# Altium schematic symbol library Antenna_Order.SchLib: 32 symbols
Pins are listed as number, name and electrical type; pins without a type are passive.

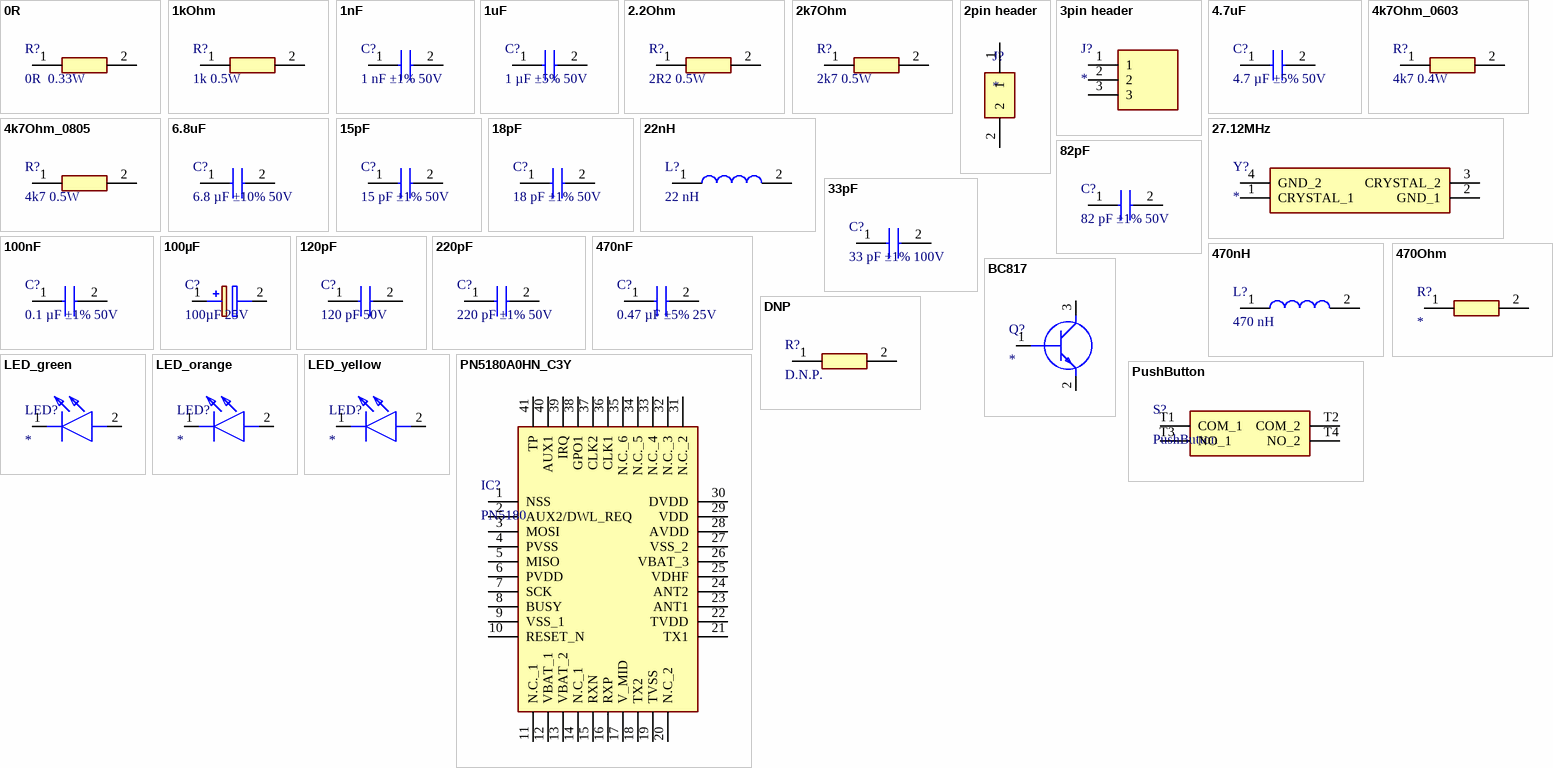
[diagram p0: symbols 0R to PushButton]

## 0R
designator R?, comment 0R  0.33W
Thick Film Resistors - SMD D11/CRCW0603 0R0 ET2 e3; Manufacturer_Name: Vishay; Manufacturer_Part_Number: CRCW06030000Z0EI; Datasheet Link: http://www.vishay.com/docs/20035/dcrcwe3.pdf; Height: 0.5mm; Mouser Part Number: 71-CRCW06030000Z0EI; Mouser Price/Stock: https://www.mouser.co.uk/ProductDetail/Vishay-Dale/CRCW06030000Z0EI?qs=%252B6g0mu59x7L7KQG%252Bwwt0jQ%3D%3D; Arrow Part Number: CRCW06030000Z0EI; Arrow Price/Stock: https://www.arrow.com/en/products/crcw06030000z0ei/vishay?utm_currency=USD&region=nac
footprint RESC1608X50N_1
pins: 1, 2

## 1kOhm
designator R?, comment 1k 0.5W
1 kOhms ±0.1% 0.5W, 1/2W Chip Resistor 0603 (1608 Metric) Thin Film; Manufacturer_Name: TE Connectivity; Manufacturer_Part_Number: RA73F1J1K0BTDF; Datasheet Link: https://www.te.com/commerce/DocumentDelivery/DDEController?Action=srchrtrv&DocNm=1773270-3&DocType=Data%20Sheet&DocLang=English&PartCntxt=2-2176474-6&DocFormat=pdf; Height: 0.58mm; Mouser Part Number: 279-RA73F1J1K0BTDF; Mouser Price/Stock: https://www.mouser.co.uk/ProductDetail/TE-Connectivity-Holsworthy/RA73F1J1K0BTDF?qs=Li%252BoUPsLEnve%2FJ8%252BWostNg%3D%3D
footprint RESC1608X58N
pins: 1, 2

## 1nF
designator C?, comment 1 nF ±1% 50V
1 nF ±1% 50V Ceramic Capacitor C0G, NP0 0805 (2012 Metric); Manufacturer_Name: Vishay; Manufacturer_Part_Number: VJ0805A102FXACW1BC; Datasheet Link: https://www.arrow.com/en/products/vj0805a102fxacw1bc/vishay; Height: 0.9mm; Mouser Part Number: 77-VJ0805A102FXACBC; Mouser Price/Stock: https://www.mouser.com/Search/Refine.aspx?Keyword=77-VJ0805A102FXACBC; Arrow Part Number: VJ0805A102FXACW1BC; Arrow Price/Stock: https://www.arrow.com/en/products/vj0805a102fxacw1bc/vishay
footprint CAPC2012X90N
pins: 1, 2

## 1uF
designator C?, comment 1 µF ±5% 50V
1 µF ±5% 50V Ceramic Capacitor X7R 0805 (2012 Metric); Manufacturer_Name: Kyocera AVX; Manufacturer_Part_Number: 08055C105JAT2A; Datasheet Link: https://componentsearchengine.com/Datasheets/1/08055C105JAT2A.pdf; Height: 1.4mm; Mouser Part Number: 581-08055C105JAT2A; Mouser Price/Stock: https://www.mouser.co.uk/ProductDetail/KYOCERA-AVX/08055C105JAT2A?qs=tIBUQlZETBw4JiKO8J7C1w%3D%3D; Arrow Part Number: 08055C105JAT2A; Arrow Price/Stock: https://www.arrow.com/en/products/08055c105jat2a/avx
footprint RESC2012X140N
pins: 1, 2

## 2.2Ohm
designator R?, comment 2R2 0.5W
2.2 Ohms ±1% 0.5W, 1/2W Chip Resistor 0805 (2012 Metric) Automotive AEC-Q200, Pulse Withstanding Thick Film; Manufacturer_Name: Vishay; Manufacturer_Part_Number: CRCW08052R20FKEAHP; Datasheet Link: https://componentsearchengine.com/Datasheets/1/CRCW08051R00FKEAHP.pdf; Height: 0.6mm; Mouser Part Number: 71-CRCW08052R20FKEAH; Mouser Price/Stock: https://www.mouser.co.uk/ProductDetail/Vishay-Dale/CRCW08052R20FKEAHP?qs=40TFAHZMFvc8altFjF5kRw%3D%3D; Arrow Part Number: CRCW08052R20FKEAHP; Arrow Price/Stock: https://www.arrow.com/en/products/crcw08052r20fkeahp/vishay?utm_currency=USD&region=nac
footprint RESC2012X60N_2
pins: 1, 2

## 2k7Ohm
designator R?, comment 2k7 0.5W
2.7 kOhms ±1% 0.5W, 1/2W Chip Resistor 0805 (2012 Metric) Automotive AEC-Q200, Pulse Withstanding Thick Film; Manufacturer_Name: Vishay; Manufacturer_Part_Number: CRCW08052K70FKEAHP; Datasheet Link: https://componentsearchengine.com/Datasheets/1/CRCW08051R00FKEAHP.pdf; Height: 0.6mm; Mouser Part Number: 71-CRCW08052K70FKEAH; Mouser Price/Stock: https://www.mouser.co.uk/ProductDetail/Vishay-Dale/CRCW08052K70FKEAHP?qs=40TFAHZMFvcOgTEige8g9Q%3D%3D; Arrow Part Number: CRCW08052K70FKEAHP; Arrow Price/Stock: https://www.arrow.com/en/products/crcw08052k70fkeahp/vishay?region=nac
footprint RESC2012X60N
pins: 1, 2

## 2pin header
designator J?
Connector Header Through Hole 2 position 0.100" (2.54mm); Manufacturer_Name: Wurth Elektronik; Manufacturer_Part_Number: 61300211121; Datasheet Link: https://componentsearchengine.com/Datasheets/2/61300211121.pdf; Height: 8.54mm; Mouser Part Number: 710-61300211121; Mouser Price/Stock: https://www.mouser.co.uk/ProductDetail/Wurth-Elektronik/61300211121?qs=t4813l51qx%252B1A5GYDQxPlw%3D%3D
footprint HDRV2W110P0X254_1X2_508X254X854P
pins: 1, 2

## 3pin header
designator J?
Connector Header Through Hole 3 position 0.100" (2.54mm); Manufacturer_Name: Harwin; Manufacturer_Part_Number: M20-9990345; Datasheet Link: https://cdn.harwin.com/pdfs/M20-999.pdf; Height: 8.64mm; Mouser Part Number: 855-M20-9990345; Mouser Price/Stock: https://www.mouser.co.uk/ProductDetail/Harwin/M20-9990345?qs=ulE8k0yEMYbl6ZPCtNdmpA%3D%3D
footprint HDRV3W64P0X254_1X3_762X254X864P
pins: 1, 2, 3

## 4.7uF
designator C?, comment 4.7 µF ±5% 50V
4.7 µF ±5% 50V Ceramic Capacitor X7R 1812 (4532 Metric); Manufacturer_Name: Kyocera AVX; Manufacturer_Part_Number: 18125C475JAT2A; Datasheet Link: https://datasheets.kyocera-avx.com/X7RDielectric.pdf; Height: 2.79mm; Mouser Part Number: 581-18125C475JAT2A; Mouser Price/Stock: https://www.mouser.com/Search/Refine.aspx?Keyword=581-18125C475JAT2A; Arrow Part Number: 18125C475JAT2A; Arrow Price/Stock: https://www.arrow.com/en/products/18125c475jat2a/avx
footprint CAPC4532X279N
pins: 1, 2

## 4k7Ohm_0603
designator R?, comment 4k7 0.4W
4.7 kOhms ±1% 0.4W Chip Resistor 0603 (1608 Metric) Automotive AEC-Q200, Pulse Withstanding Thick Film; Manufacturer_Name: ROHM Semiconductor; Manufacturer_Part_Number: SDR03EZPF4701; Height: 0.55mm; Mouser Part Number: 755-SDR03EZPF4701; Mouser Price/Stock: https://www.mouser.co.uk/ProductDetail/ROHM-Semiconductor/SDR03EZPF4701?qs=byeeYqUIh0OpNXtQCyPv7A%3D%3D
footprint RESC1608X55N_1
pins: 1, 2

## 4k7Ohm_0805
designator R?, comment 4k7 0.5W
4.7 kOhms ±1% 0.5W, 1/2W Chip Resistor 0805 (2012 Metric) Automotive AEC-Q200, Pulse Withstanding Thick Film; Manufacturer_Name: Vishay; Manufacturer_Part_Number: CRCW08054K70FKEAHP; Datasheet Link: https://componentsearchengine.com/Datasheets/1/CRCW08051R00FKEAHP.pdf; Height: 0.6mm; Mouser Part Number: 71-CRCW08054K70FKEAH; Mouser Price/Stock: https://www.mouser.co.uk/ProductDetail/Vishay-Dale/CRCW08054K70FKEAHP?qs=k2%2FDWSARqgEa%252B2IrxOkJMA%3D%3D; Arrow Part Number: CRCW08054K70FKEAHP; Arrow Price/Stock: https://www.arrow.com/en/products/crcw08054k70fkeahp/vishay?utm_currency=USD&region=nac
footprint RESC2012X60N_1
pins: 1, 2

## 6.8uF
designator C?, comment 6.8 µF ±10% 50V
6.8 µF ±10% 50V Ceramic Capacitor X5R 1206 (3216 Metric); Manufacturer_Name: TDK; Manufacturer_Part_Number: C3216X5R1H685K160AB; Datasheet Link: https://product.tdk.com/info/en/catalog/datasheets/mlcc_commercial_midvoltage_en.pdf; Height: 1.8mm; Mouser Part Number: 810-C3216X5R1H685K; Mouser Price/Stock: https://www.mouser.co.uk/ProductDetail/TDK/C3216X5R1H685K160AB?qs=LcTL%2F5vFEzHV52DL6DPbFg%3D%3D; Arrow Part Number: C3216X5R1H685K160AB; Arrow Price/Stock: https://www.arrow.com/en/products/c3216x5r1h685k160ab/tdk
footprint CAPC3216X180N
pins: 1, 2

## 15pF
designator C?, comment 15 pF ±1% 50V
15 pF ±1% 50V Ceramic Capacitor C0G, NP0 0805 (2012 Metric); Manufacturer_Name: KEMET; Manufacturer_Part_Number: C0805C150F5GACTU; Datasheet Link: https://content.kemet.com/datasheets/KEM_C1003_C0G_SMD.pdf; Height: 1.1mm; Mouser Part Number: 80-C0805C150F5GACTU; Mouser Price/Stock: https://www.mouser.com/Search/Refine.aspx?Keyword=80-C0805C150F5GACTU
footprint C0805
pins: 1, 2

## 18pF
designator C?, comment 18 pF ±1% 50V
18 pF ±1% 50V Ceramic Capacitor C0G, NP0 0805 (2012 Metric); Manufacturer_Name: Kyocera AVX; Manufacturer_Part_Number: 08055A180FAT2A; Datasheet Link: https://4donline.ihs.com/images/VipMasterIC/IC/AVXC/AVXC-S-A0014478390/AVXC-S-A0014712186-1.pdf?hkey=EF798316E3902B6ED9A73243A3159BB0; Height: 0.94mm; Mouser Part Number: 581-08055A180FAT2A; Mouser Price/Stock: https://www.mouser.com/Search/Refine.aspx?Keyword=581-08055A180FAT2A
footprint CAPC2012X94N_2
pins: 1, 2

## 22nH
designator L?, comment 22 nH
22 nH Unshielded Multilayer Inductor 300 mA 500mOhm Max 0805 (2012 Metric); Manufacturer_Name: ABRACON; Manufacturer_Part_Number: AIMC-0805-22NJ-T; Datasheet Link: https://abracon.com/Magnetics/new/AIMC-0805.pdf; Height: 1.15mm; Mouser Part Number: 815-AIMC-0805-22NJT; Mouser Price/Stock: https://www.mouser.com/Search/Refine.aspx?Keyword=815-AIMC-0805-22NJT; Arrow Part Number: AIMC-0805-22NJ-T; Arrow Price/Stock: https://www.arrow.com/en/products/aimc-0805-22nj-t/abracon
footprint INDC2012X115N
pins: 1, 2

## 27.12MHz
designator Y?
27.12 MHz ±10ppm Crystal 10pF 50 Ohms 4-SMD, No Lead; Manufacturer_Name: TXC CORPORATION; Manufacturer_Part_Number: 7M-27.120MEEQ-T; Datasheet Link: http://www.txccrystal.com/images/pdf/7m-accuracy.pdf; Height: 0.8mm; Mouser Part Number: 717-7M-27.120MEEQ-T; Mouser Price/Stock: https://www.mouser.co.uk/ProductDetail/TXC-Corporation/7M-27.120MEEQ-T?qs=65dIHZNch5vpCedHjSv71Q%3D%3D; Arrow Part Number: 7M-27.120MEEQ-T; Arrow Price/Stock: https://www.arrow.com/en/products/7m-27.120meeq-t/txc-corporation?region=europe
footprint 7M27120MEEQT
pins: 1 CRYSTAL_1, 2 GND_1, 3 CRYSTAL_2, 4 GND_2

## 33pF
designator C?, comment 33 pF ±1% 100V
33 pF ±1% 100V Ceramic Capacitor C0G, NP0 0805 (2012 Metric); Manufacturer_Name: Kyocera AVX; Manufacturer_Part_Number: 08051A330FAT2A; Datasheet Link: https://spicat.kyocera-avx.com/product/mlcc/chartview/08051A330FAT2A/DataSheet/NP0c; Height: 0.94mm; Mouser Part Number: 581-08051A330F; Mouser Price/Stock: https://www.mouser.co.uk/ProductDetail/AVX/08051A330FAT2A?qs=xS%252BL8w1%252B7NBUjm7pwPIlOg%3D%3D; Arrow Part Number: 08051A330FAT2A; Arrow Price/Stock: https://www.arrow.com/en/products/08051a330fat2a/avx
footprint CAPC2012X94N_4
pins: 1, 2

## 82pF
designator C?, comment 82 pF ±1% 50V
82 pF ±1% 50V Ceramic Capacitor C0G, NP0 0805 (2012 Metric); Manufacturer_Name: Kyocera AVX; Manufacturer_Part_Number: 08055A820FAT2A; Datasheet Link: https://www.mouser.com/datasheet/2/40/C0GNP0_Dielectric-951274.pdf; Height: 0.94mm; Mouser Part Number: 581-08055A820FAT2A; Mouser Price/Stock: https://www.mouser.co.uk/ProductDetail/Kyocera-AVX/08055A820FAT2A?qs=PcWMbIuZCscXY%2FuloG0yJQ%3D%3D
footprint CAPC2012X94N_1
pins: 1, 2

## 100nF
designator C?, comment 0.1 µF ±1% 50V
0.1 µF ±1% 50V Ceramic Capacitor C0G, NP0 1206 (3216 Metric); Manufacturer_Name: Murata Electronics; Manufacturer_Part_Number: GRT31C5C1H104FA02L; Datasheet Link: https://search.murata.co.jp/Ceramy/image/img/A01X/G101/ENG/GRT31C5C1H104FA02-01A.pdf; Height: 1.25mm; Mouser Part Number: 81-GRT31C5C1H104FA2L; Mouser Price/Stock: https://www.mouser.co.uk/ProductDetail/Murata-Electronics/GRT31C5C1H104FA02L?qs=xZ%2FP%252Ba9zWqakAIIZeEzSxA%3D%3D; Arrow Part Number: GRT31C5C1H104FA02L; Arrow Price/Stock: https://www.arrow.com/en/products/grt31c5c1h104fa02l/murata-manufacturing?region=nac
footprint GRT31x
pins: 1, 2

## 100µF
designator C?, comment 100µF 25V
Capacitor Polarised. Aluminum Organic Polymer Capacitors 100uF 25volt AEC-Q200; Manufacturer_Name: Panasonic; Manufacturer_Part_Number: EEH-ZA1E101XP; Description: Aluminum Organic Polymer Capacitors 100uF 25volt AEC-Q200; Datasheet Link: http://industrial.panasonic.com/cdbs/www-data/pdf/RDD0000/ABA0000C1221.pdf; Height: 8.3mm; Mouser Part Number: 667-EEH-ZA1E101XP; Mouser Price/Stock: https://www.mouser.co.uk/ProductDetail/Panasonic/EEH-ZA1E101XP?qs=7UCyOFMWVHbBL6OBgRrCPQ%3D%3D
footprint EEHZA1E101XP
pins: 1 +, 2 -

## 120pF
designator C?, comment 120 pF 50V
120 pF ±1% 50V Ceramic Capacitor C0G, NP0 0805 (2012 Metric); Manufacturer_Name: Kyocera AVX; Manufacturer_Part_Number: 08055A121FAT2A; Datasheet Link: https://componentsearchengine.com/Datasheets/1/08055A121FAT2A.pdf; Height: 0.94mm; Mouser Part Number: 581-08055A121F; Mouser Price/Stock: https://www.mouser.com/Search/Refine.aspx?Keyword=581-08055A121F
footprint CAPC2012X94N_5
pins: 1, 2

## 220pF
designator C?, comment 220 pF ±1% 50V
220 pF ±1% 50V Ceramic Capacitor C0G, NP0 0805 (2012 Metric); Manufacturer_Name: Kyocera AVX; Manufacturer_Part_Number: 08055A221FAT2A; Datasheet Link: https://www.mouser.com/datasheet/2/40/C0GNP0_Dielectric-951274.pdf; Height: 0.94mm; Mouser Part Number: 581-08055A221FAT2A; Mouser Price/Stock: https://www.mouser.co.uk/ProductDetail/AVX/08055A221FAT2A?qs=owscpGBW86VBfJF%2FIHQR%252BQ%3D%3D
footprint CAPC2012X94N_3
pins: 1, 2

## 470nF
designator C?, comment 0.47 µF ±5% 25V
0.47 µF ±5% 25V Ceramic Capacitor X7R 0603 (1608 Metric); Manufacturer_Name: Kyocera AVX; Manufacturer_Part_Number: 06033C474JAT2A; Datasheet Link: https://componentsearchengine.com/Datasheets/1/06031A100FAT2A.pdf; Height: 0.9mm; Mouser Part Number: 581-06033C474JAT2A; Mouser Price/Stock: https://www.mouser.com/Search/Refine.aspx?Keyword=581-06033C474JAT2A
footprint CAPC1608X90N
pins: 1, 2

## 470nH
designator L?, comment 470 nH
470 nH Shielded Multilayer Inductor 400 mA 494mOhm Max 0603 (1608 Metric); Manufacturer_Name: TDK; Manufacturer_Part_Number: MLJ1608WR47JT000; Datasheet Link: https://product.tdk.com/system/files/dam/doc/product/inductor/inductor/smd/catalog/inductor_commercial_standard_mlj1608_en.pdf; Height: 0.95mm; Mouser Part Number: 810-MLJ1608WR47JT000; Mouser Price/Stock: https://www.mouser.co.uk/ProductDetail/TDK/MLJ1608WR47JT000?qs=XFe3dyCRgQg9kpQbVd6YyA%3D%3D; Arrow Part Number: MLJ1608WR47JT000; Arrow Price/Stock: https://www.arrow.com/en/products/mlj1608wr47jt000/tdk?region=nac
footprint INDC1608X95N
pins: 1, 2

## 470Ohm
designator R?
SMD 0603 470ohm 1% Anti Surge AEC-Q200; Manufacturer_Name: ROHM Semiconductor; Manufacturer_Part_Number: ESR03EZPF4700; Datasheet Link: https://componentsearchengine.com/Datasheets/2/ESR03EZPF4700.pdf; Height: 0.55mm; Mouser Part Number: 755-ESR03EZPF4700; Mouser Price/Stock: https://www.mouser.co.uk/ProductDetail/ROHM-Semiconductor/ESR03EZPF4700?qs=DyUWGjl%252BcVsZQGp8SgvEfA%3D%3D; Arrow Part Number: ESR03EZPF4700; Arrow Price/Stock: https://www.arrow.com/en/products/esr03ezpf4700/rohm-semiconductor?region=nac
footprint RESC1608X55N
pins: 1, 2

## BC817
designator Q?
Bipolar (BJT) Transistor NPN 80 V 500 mA 100MHz 225 mW Surface Mount SOT-23-3 (TO-236); Manufacturer_Name: onsemi; Manufacturer_Part_Number: SMMBTA06LT3G; Datasheet Link: https://www.onsemi.com/pub/Collateral/MMBTA05LT1-D.PDF; Height: 1.11mm; Mouser Part Number: 863-SMMBTA06LT3G; Mouser Price/Stock: https://www.mouser.co.uk/ProductDetail/onsemi/SMMBTA06LT3G?qs=uarJZ6H%252BeNrtzNKN%252B1EKYg%3D%3D
footprint SOT96P237X111-3N
pins: 1 B, 2 E, 3 C

## DNP
designator R?, comment D.N.P.
Thick Film Resistors - SMD D11/CRCW0603 0R0 ET2 e3; Manufacturer_Name: Vishay; Manufacturer_Part_Number: CRCW06030000Z0EI; Description: Standard Thick Film Chip Resistors value 0000 ohm.; Datasheet Link: http://www.vishay.com/docs/20035/dcrcwe3.pdf; Height: 0.5mm; Mouser Part Number: 71-CRCW06030000Z0EI; Mouser Price/Stock: https://www.mouser.co.uk/ProductDetail/Vishay-Dale/CRCW06030000Z0EI?qs=%252B6g0mu59x7L7KQG%252Bwwt0jQ%3D%3D; Arrow Part Number: CRCW06030000Z0EI; Arrow Price/Stock: https://www.arrow.com/en/products/crcw06030000z0ei/vishay?utm_currency=USD&region=nac
footprint RESC1608X50N_DNP
pins: 1, 2

## LED_green
designator LED?
LED; Manufacturer_Name: Lite-On; Manufacturer_Part_Number: LTST-C171KGKT; Datasheet Link: https://optoelectronics.liteon.com/upload/download/DS22-2000-118/LTST-C171KGKT.pdf; Height: 0.9mm; Mouser Part Number: 859-LTST-C171KGKT; Mouser Price/Stock: https://www.mouser.co.uk/ProductDetail/LITEON/LTST-C171KGKT?qs=j1zysehuyChA38z%2F%252BFfUSw%3D%3D; Arrow Part Number: LTST-C171KGKT; Arrow Price/Stock: https://www.arrow.com/en/products/ltst-c171kgkt/lite-on-technology?region=nac
footprint LEDC2012X90N
pins: 1 K, 2 A

## LED_orange
designator LED?
LED; Manufacturer_Name: Lite-On; Manufacturer_Part_Number: LTST-C150KAKT; Datasheet Link: http://media.digikey.com/pdf/Data%20Sheets/Lite-On%20PDFs/LTST-C150KAKT.pdf; Height: 1.2mm; Mouser Part Number: 859-LTST-C150KAKT; Mouser Price/Stock: https://www.mouser.co.uk/ProductDetail/Lite-On/LTST-C150KAKT?qs=Z3CaLxJiOJI8YYCkdyNq2A%3D%3D; Arrow Part Number: LTST-C150KAKT; Arrow Price/Stock: https://www.arrow.com/en/products/ltst-c150kakt/lite-on-technology?region=nac
footprint LEDC3216X120N
pins: 1 K, 2 A

## LED_yellow
designator LED?
LED; Manufacturer_Name: Lite-On; Manufacturer_Part_Number: LTST-C171KSKT; Datasheet Link: https://optoelectronics.liteon.com/upload/download/DS22-2000-110/LTST-C171KSKT.pdf; Height: 0.9mm; Mouser Part Number: 859-LTST-C171KSKT; Mouser Price/Stock: https://www.mouser.co.uk/ProductDetail/LITEON/LTST-C171KSKT?qs=llMtm9xcdM0CwR1bByTaUQ%3D%3D; Arrow Part Number: LTST-C171KSKT; Arrow Price/Stock: https://www.arrow.com/en/products/ltst-c171kskt/lite-on-technology?utm_currency=USD&region=nac
footprint LTSTC171KSKT
pins: 1 K, 2 A

## PN5180A0HN_C3Y
designator IC?, comment PN5180
RF Front End High-Performance Multi-protocol Full NFC Forum-compliant Frontend PN5180A0HN/C3Y; Manufacturer_Name: NXP; Datasheet Link: https://datasheet.datasheetarchive.com/originals/distributors/DKDS-31/606841.pdf; Height: 1mm; Manufacturer_Part_Number: PN5180A0HN/C3Y; Mouser Part Number: 771-PN5180A0HN/C3Y; Mouser Price/Stock: https://www.mouser.co.uk/ProductDetail/NXP-Semiconductors/PN5180A0HN-C3Y?qs=1mbolxNpo8fIXIFwLHRV2A%3D%3D; Arrow Part Number: PN5180A0HN/C3Y; Arrow Price/Stock: https://www.arrow.com/en/products/pn5180a0hnc3y/nxp-semiconductors?utm_currency=USD&region=nac
footprint QFN50P600X600X100-41N-D
pins: 1 NSS, 2 AUX2/DWL_REQ, 3 MOSI, 4 PVSS, 5 MISO, 6 PVDD, 7 SCK, 8 BUSY, 9 VSS_1, 10 RESET_N, 11 N.C._1, 12 VBAT_1, 13 VBAT_2, 14 N.C_1, 15 RXN, 16 RXP, 17 V_MID, 18 TX2, 19 TVSS, 20 N.C_2, 21 TX1, 22 TVDD, 23 ANT1, 24 ANT2, 25 VDHF, 26 VBAT_3, 27 VSS_2, 28 AVDD, 29 VDD, 30 DVDD, 31 N.C._2, 32 N.C._3, 33 N.C._4, 34 N.C._5, 35 N.C._6, 36 CLK1, 37 CLK2, 38 GPO1, 39 IRQ, 40 AUX1, 41 TP

## PushButton
designator S?
Tactile Switches TACT,TH,NW,6X6,1000B,LF / 95C06B3T; Manufacturer_Name: Grayhill; Datasheet Link: https://www.grayhill.com/documents/95C06-Datasheet; Height: 5mm; Manufacturer_Part_Number: 95C06B3T; Mouser Part Number: 706-95C06B3T; Mouser Price/Stock: https://www.mouser.co.uk/ProductDetail/Grayhill/95C06B3T?qs=ls7QRyWmRk5UzR9ZCipZTQ%3D%3D; Arrow Part Number: 95C06B3T; Arrow Price/Stock: https://www.arrow.com/en/products/95c06b3t/grayhill?region=nac
footprint 95C06B3T
pins: T1 COM_1, T2 COM_2, T3 NO_1, T4 NO_2